# Altium footprint library CONN_SD-39511-001_10P_MOL.PcbLib: 1 footprints
Each footprint in its own frame and in the unit in brackets; x right, y up, seen from the top. Pads: shape width x height; smd on the part's side, far side on the other; paste and mask are expansions set on the pad; w line width, h text height; cw(c..) or ccw(c..) is an arc to the next point about the centre after c.
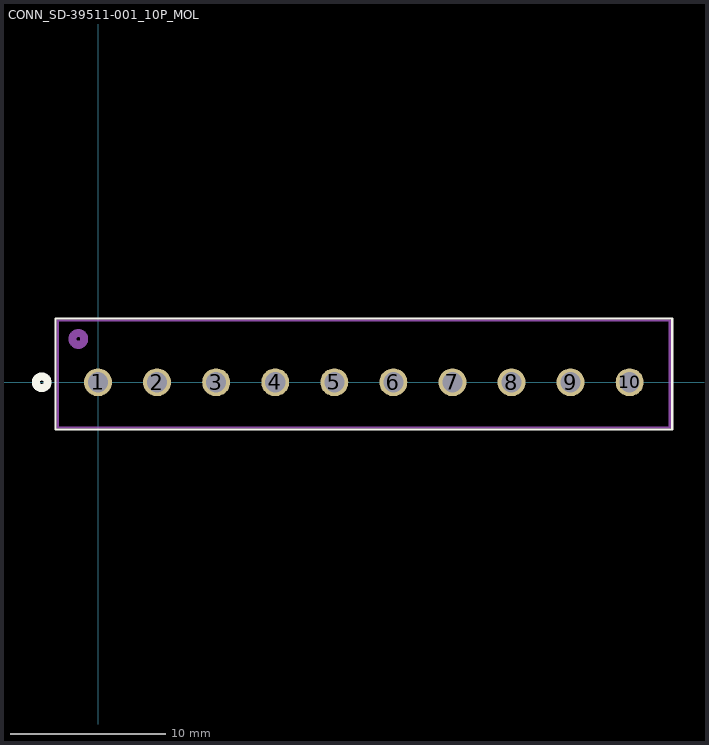
[diagram p0: the footprint, top view; thin cyan lines are the x and y axes]

## CONN_SD-39511-001_10P_MOL [mil]
pads (10):
  round 71 hole 51 mask+4.02: 1(0,0) 2(150,0) 3(300,0) 4(450,0) 5(600,0) 6(750,0) 7(900,0) 8(1050,0) 9(1200,0) 10(1350,0)
Top Overlay:
  lines w6: -108,-120 1458,-120 1458,162 -108,162 -108,-120
  lines w20: -158,0 ccw(c-143,0) -128,0 ccw(c-143,0) -158,0
Bottom Overlay:
  lines w20: -158,0 ccw(c-143,0) -128,0 ccw(c-143,0) -158,0
Assembly Top:
  lines w6: -102,-115 1452,-115 1452,157 -102,157 -102,-115
  lines w20: -65,110 ccw(c-50,110) -35,110 ccw(c-50,110) -65,110
3D body "395111010.stp": height 360, standoff -140, extent -97.36,-109.99 1457.37,160.01